# Altium schematic symbol library OPA2189ID.SchLib: 1 symbol
Pins are listed as number, name and electrical type; pins without a type are passive.

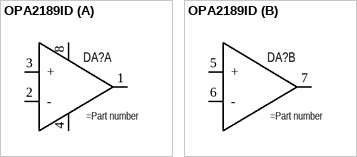
[diagram p0: symbol OPA2189ID]

## OPA2189ID
designator DA?
High-precision operational amplifier
part A pins: 1 Out, 2 -, 3 +, 4 GND, 8 Vdd
part B pins: 5 +, 6 -, 7 Out